# EAGLE library part FT24C04A (library IC_Memory)
Two-Wire Serial EEPROM Datasheet <https://media.digikey.com/pdf/Data%20Sheets/Fremont/24C04A,8A,16A.pdf>
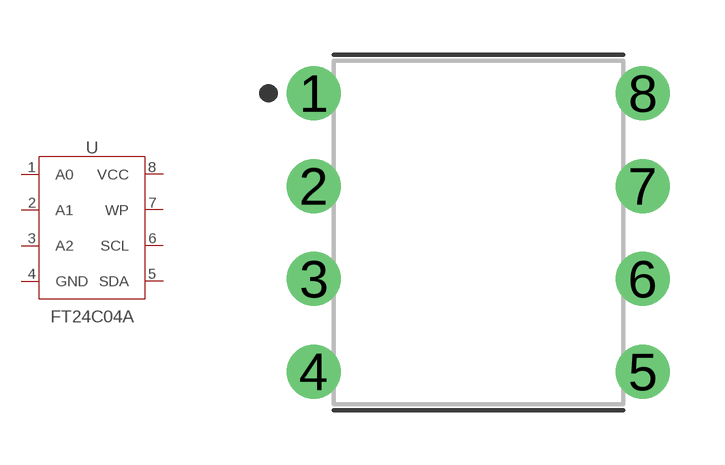
[diagram p0: symbol with the pads of DIP900W57P254L920H431Q8B; footprint DIP900W57P254L920H431Q8B]

Designator prefix -

## FT24C04A-UDR-B (CATEGORY: IC_Memory; DESCRIPTION: IC EEPROM 4K I2C 1MHZ 8DIP; MANUFACTURER: Fremont Micro Devices Ltd; MPN: FT24C04A-UDR-B; OPERATING_TEMP: -40 to +85°C; PART_STATUS: Active; ROHS_COMPLIANT: RoHS3 Compliant; SUB_CATEGORY: EEPROM)  [DIP900W57P254L920H431Q8B]
1  A0  in
2  A1  in
3  A2  in
4  GND  pwr
5  SDA  in
6  SCL  in
7  WP  in
8  VCC  pwr

## Footprint DIP900W57P254L920H431Q8B (pad centres in mm)
8-DIP, 2.54 mm (0.10 in) pitch, 9.00 mm (0.35 in) span, 9.20 X 7.62 X 4.31 mm body 8-pin DIP package with 2.54 mm (0.10 in) pitch, 9.00 mm (0.35 in) span with body size 9.20 X 7.62 X 4.31 mm
drill 0.874 pad 1.474 round: 1 -4.5,3.81; 2 -4.5,1.27; 3 -4.5,-1.27; 4 -4.5,-3.81; 5 4.5,-3.81; 6 4.5,-1.27; 7 4.5,1.27; 8 4.5,3.81